# Altium footprint library myLib.PcbLib: 111 footprints (part 1 of 7)
Each footprint in its own frame and in the unit in brackets; x right, y up, seen from the top. Pads: shape width x height; smd on the part's side, far side on the other; paste and mask are expansions set on the pad; w line width, h text height; cw(c..) or ccw(c..) is an arc to the next point about the centre after c.
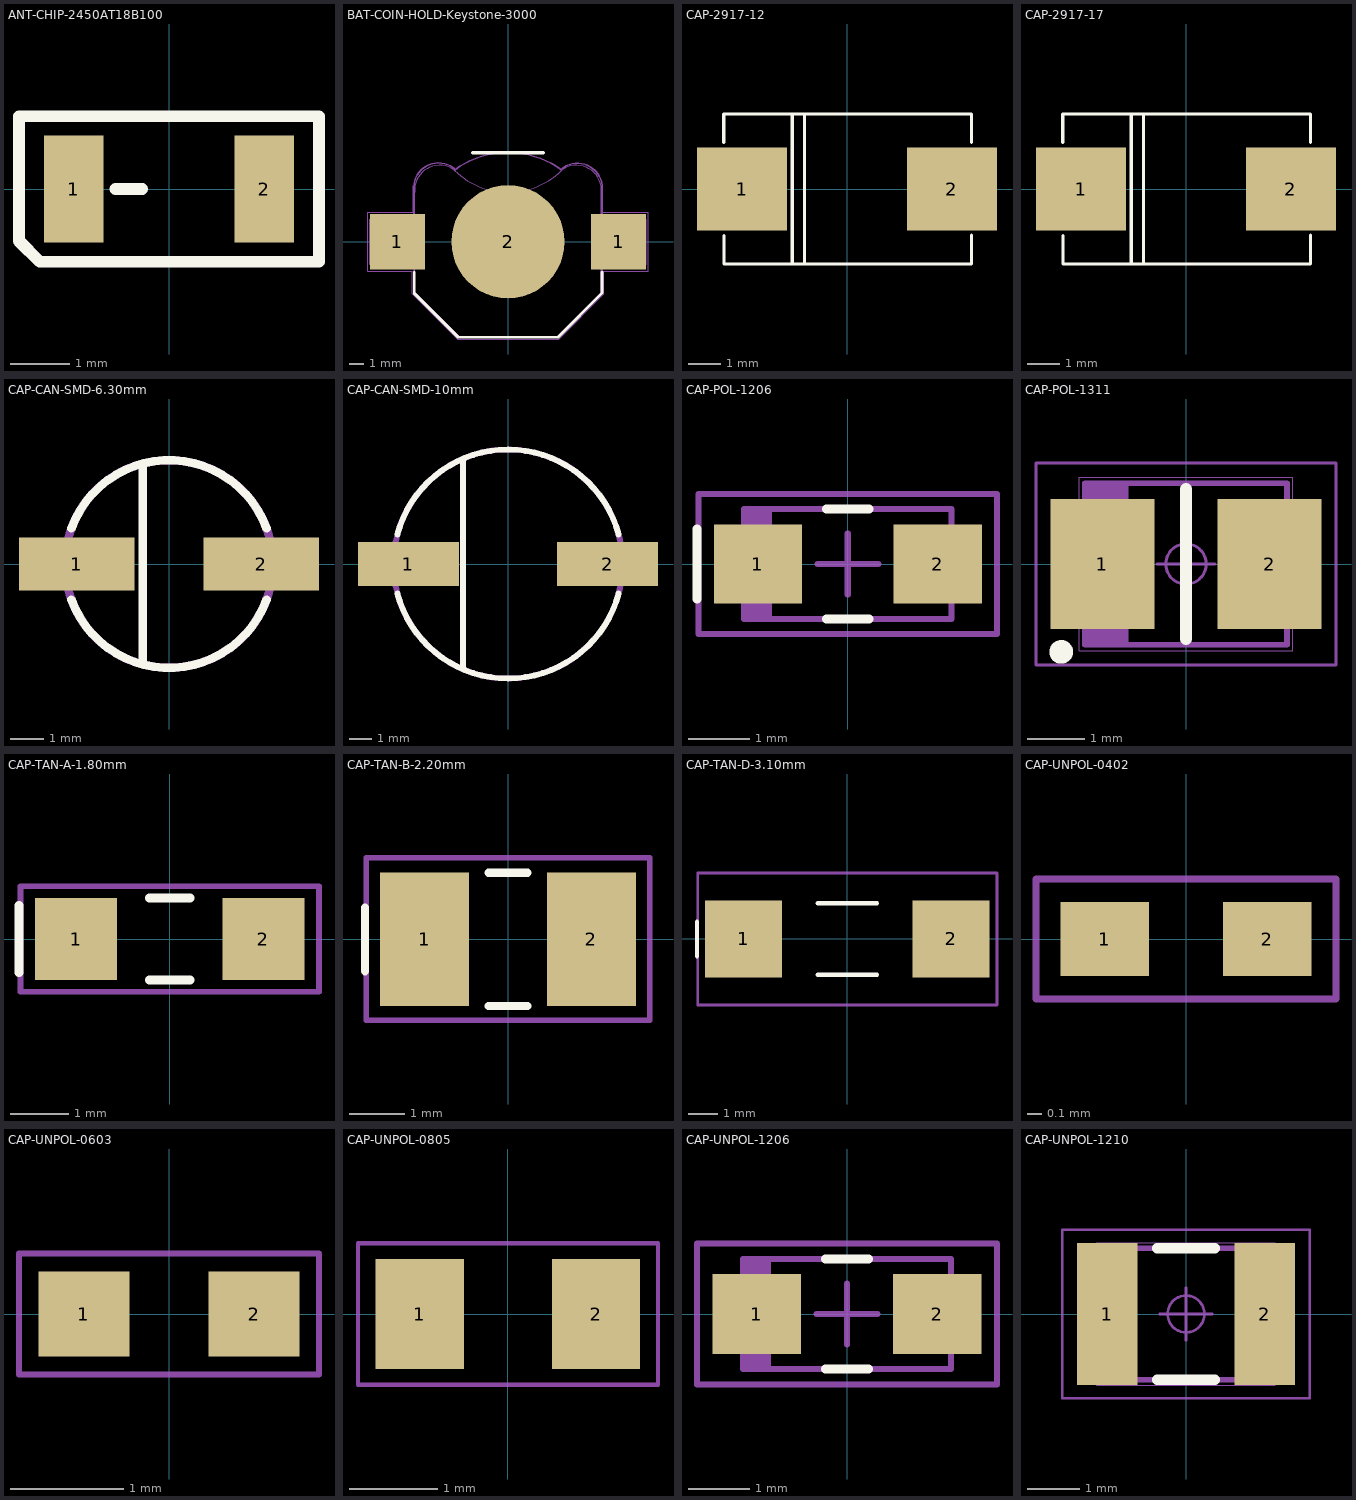
[diagram p0: the footprints below, top view; thin cyan lines are the x and y axes]

## ANT-CHIP-2450AT18B100 [mm] "Chip Antenna (Johnson Tech. 2450AT18B100)"
pads (2):
  rect 1x1.8 smd: 1(-1.6,0) 2(1.6,0)
Top Overlay:
  lines w0.2: -0.9,0 -0.45,0 ; -2.525,-0.875 -2.175,-1.225 2.525,-1.225 2.525,1.225 -2.525,1.225 -2.525,-0.875

## BAT-COIN-HOLD-Keystone-3000 [mm] "Coin Cell Battery Holder (Keystone 3000)"
height 3.2
pads (3):
  rect 3.9x3.9 smd: 1(-7.82,0) 1(7.82,0)
  round 8 smd mask+0: 2(0,0)
Top Overlay:
  lines w0.2: -6.631,-2.152 -6.631,-3.638 -3.517,-6.752 3.523,-6.752 6.651,-3.624 6.651,-2.152
  lines w0.254: -2.5,6.3 2.5,6.3
Drawing:
  lines w0.05: -6.697,3.669 cw(c-4.947,3.819) -3.753,5.107 ; -6.697,3.972 -6.697,2.091 -9.911,2.091 -9.911,-2.09 -6.757,-2.09 -6.757,-3.642 -6.757,-3.691 -3.57,-6.878 3.574,-6.878 6.776,-3.676 6.776,-2.091 8.247,-2.091 9.91,-2.091 9.91,2.091 6.689,2.091 6.689,4 ; -3.745,5.096 cw(c0,-0.1) 3.756,5.088 ; 3.765,5.102 cw(c4.939,3.795) 6.689,3.645
3D:
  circle w0.001: c8.185,0 r1.2
  circle w0.001: c-8.185,0 r1.2
  lines w0.001: -6.6,-1.6 -9.77,-1.6 -9.77,1.6 -6.6,1.6 ; -3.802,5.055 cw(c0,-0.1) 3.803,5.054 ; 6.6,-1.6 9.77,-1.6 9.77,1.6 6.6,1.6 ; -6.6,-3.6 -3.5,-6.7 3.5,-6.7 6.6,-3.6 6.6,-3.5 6.6,3.5 ccw(c4.85,3.65) 3.837,5.085 cw(c0.001,8.915) -3.83,5.08 ccw(c-4.85,3.65) -6.6,3.5 -6.6,-3.5 -6.6,-3.6
Mechanical:
  lines w0.1: -6.653,3.668 cw(c-4.903,3.818) -3.709,5.106 ; -6.653,3.928 -6.653,1.727 ; -6.635,-3.635 -3.517,-6.752 3.523,-6.752 6.589,-3.679 ; -6.631,-3.638 -6.631,-1.723 ; -3.745,5.096 cw(c0,-0.1) 3.756,5.088 ; 3.733,5.098 cw(c4.906,3.792) 6.654,3.965 6.654,1.73 9.575,1.73 9.575,-1.724 8.47,-1.724 6.651,-1.724 6.651,-3.623 ; -9.578,-1.723 -9.578,1.727 ; -9.578,-1.723 -6.631,-1.723 ; -9.578,-1.723 -6.631,-1.723 ; -9.578,-1.723 -9.578,1.727 ; -9.578,1.727 -6.653,1.727 ; -9.578,1.727 -6.653,1.727
3D body "User Library-BK-885-TR.step": height 3.19, standoff 0.02, extent -9.78,-6.36 9.78,6.34

## CAP-2917-12 [mm] "EIA-7343-31"
pads (2):
  rect 2.77x2.55 smd: 1(-3.22,0) 2(3.22,0)
Top Overlay:
  lines w0.1: -3.786,1.427 -3.786,2.301 3.817,2.301 3.821,2.301 3.821,1.427 ; -3.779,-1.425 -3.779,-2.3 3.821,-2.3 3.821,-1.422 ; -1.679,-2.3 -1.679,2.3 ; -1.302,-2.3 -1.302,2.3 -1.293,2.3
3D body "T495D107K016ATE100.step": height 3.31, standoff 0.21, extent -3.78,-2.3 3.82,2.3

## CAP-2917-17 [mm] "EIA-7343-43"
pads (2):
  rect 2.77x2.55 smd: 1(-3.22,0) 2(3.22,0)
Top Overlay:
  lines w0.1: -3.786,1.427 -3.786,2.301 3.817,2.301 3.821,2.301 3.821,1.427 ; -3.779,-1.425 -3.779,-2.3 3.821,-2.3 3.821,-1.422 ; -1.679,-2.3 -1.679,2.3 ; -1.302,-2.3 -1.302,2.3 -1.293,2.3
3D body "T495X477K010ATE100.step": height 4.51, standoff 0.21, extent -3.777,-2.297 3.823,2.303

## CAP-CAN-SMD-6.30mm [mm] "Size: 6.60mm x 6.60mm, Diameter: 6.3mm, Height: 5.80mm"
height 1.6
pads (2):
  rect 3.5x1.6 smd: 1(-2.8,0) 2(2.8,0)
Top Overlay:
  lines w0.254: -2.96,-1.077 ccw(c0,0) 2.96,-1.077 ; -2.96,1.077 cw(c0,0) 2.96,1.077 ; -0.798,-3.045 -0.798,3.041
Drawing:
  circle w0.254: c0,0 r3.15
3D body "EDK106M063A9GAA.step": height 5.75, standoff 0.1, extent -3.747,-3.408 3.853,3.392

## CAP-CAN-SMD-10mm [mm] "Size: 10.30mm x 10.30mm, Diameter: 10mm, Height: 10.5 mm"
height 1.6
pads (2):
  rect 4.4x1.9 smd: 1(-4.35,0) 2(4.35,0)
Top Overlay:
  lines w0.1: -2.238,4.438 -1.964,4.438
  lines w0.254: -4.83,-1.294 ccw(c0,0) 4.83,-1.294 ; -4.83,1.294 cw(c0,0) 4.83,1.294 ; -1.964,-4.581 -1.964,4.581
Drawing:
  circle w0.254: c0,0 r5
3D body "EDH476M100A9PAA (1).step": height 10.61, standoff 0.1, extent -6.117,-5.291 6.083,5.209

## CAP-POL-1206 [mm] "Molded Capacitor, 2-Leads, Body 3.2x1.6mm, IPC Medium Density"
height 1.6
pads (2):
  rect 1.45x1.3 smd: 1(-1.475,0) 2(1.475,0)
Top Overlay:
  lines w0.15: -2.475,-0.575 -2.475,0.575 ; -0.35,-0.9 0.35,-0.9 ; -0.35,0.9 0.35,0.9
Drawing:
  rectangle: -1.7,-0.9 -1.243,0.9
  lines w0.1: -1.7,-0.9 -1.7,0.9 1.7,0.9 1.7,-0.9 -1.7,-0.9
Mechanical:
  lines w0.1: -0.5,0 0.5,0 ; 0,-0.5 0,0.5 ; -2.45,-1.15 -2.45,1.15 2.45,1.15 2.45,-1.15 -2.45,-1.15
3D body: height 1.6, standoff 0, extent -1.651,-0.889 -0.635,0.889
3D body: height 1.6, standoff 0, extent -0.889,-0.9 1.7,0.9

## CAP-POL-1311 [mm] "3528mm X 210N"
height 1.9
pads (2):
  rect 1.8x2.25 smd: 1(-1.45,0) 2(1.45,0)
Top Overlay:
  circle w0.25: c-2.163,-1.524 r0.08
  lines w0.2: 0,-1.3 0,1.3
Drawing:
  circle w0.05: c0,0 r0.35
  lines w0.05: -0.5,0 0.5,0 ; 0,-0.5 0,0.5 ; -2.6,-1.75 -2.6,1.75 2.6,1.75 2.6,-1.75 -2.6,-1.75
3D:
  lines w0.001: -1.85,-1.5 -1.85,1.5 1.85,1.5 1.85,-1.5 -1.85,-1.5
Mechanical:
  lines w0.1: -1.65,-1.4 -1.65,1.4 ; -1.55,-1.4 -1.55,1.4 ; -1.45,-1.4 -1.45,1.4 ; -1.35,-1.4 -1.35,1.4 ; -1.25,-1.4 -1.25,1.4 ; -1.15,-1.4 -1.15,1.4 ; -1.05,-1.4 -1.05,1.4 ; -1.75,-1.4 -1.75,1.4 ; -1.75,-1.4 -1.75,1.4 ; -1.75,-1.4 1.75,-1.4 1.75,1.4 -1.75,1.4
3D body: height 1.9, standoff 0, extent -0.991,-1.5 1.85,1.5
3D body: height 1.9, standoff 0, extent -1.85,-1.5 -0.991,1.5

## CAP-TAN-A-1.80mm [mm] "Size: 3.20mm x 1.60mm, Height: 1.8mm"
height 1.6
pads (2):
  rect 1.4x1.4 smd: 1(-1.6,0) 2(1.6,0)
Top Overlay:
  lines w0.15: -2.575,-0.575 -2.575,0.575 ; -0.35,-0.7 0.35,-0.7 ; -0.35,0.7 0.35,0.7
Drawing:
  lines w0.1: -2.55,-0.9 -2.55,0.9 2.55,0.9 2.55,-0.9 -2.55,-0.9
3D body "T55_A-case.stp": height 1.9, standoff 0.1, extent -1.7,-0.9 1.7,0.9

## CAP-TAN-B-2.20mm [mm] "Size: 3.50mm x 2.80mm, Height: 2.10mm"
height 1.6
pads (2):
  rect 1.6x2.4 smd: 1(-1.5,0) 2(1.5,0)
Top Overlay:
  lines w0.15: -2.575,-0.575 -2.575,0.575 ; -0.35,-1.2 0.35,-1.2 ; -0.35,1.2 0.35,1.2
Drawing:
  lines w0.1: -2.55,-1.458 2.55,-1.458 2.55,1.472 -2.55,1.472 -2.55,-1.458
3D body "TCJB226M016R0150-TCJ_B.stp": height 1.96, standoff -0.07, extent -1.964,-1.458 1.736,1.472

## CAP-TAN-D-3.10mm [mm] "Size: 7.30mm x 4.30mm, Height: 3.10mm"
height 1.6
pads (2):
  rect 2.6x2.6 smd: 1(-3.5,0) 2(3.5,0)
Top Overlay:
  lines w0.15: -5.075,-0.575 -5.075,0.575 ; -1,-1.2 1,-1.2 ; -1,1.2 1,1.2
Drawing:
  lines w0.1: -5.05,-2.225 5.05,-2.225 5.05,2.225 -5.05,2.225 -5.05,-2.225
3D body "TPSD107M016R0100-TPS_D.stp": height 3.07, standoff 0.07, extent -3.704,-2.225 3.695,2.225

## CAP-UNPOL-0402 [mm] "Capacitor, Generic, 0402"
pads (2):
  rect 0.6x0.5 smd: 1(-0.55,0) 2(0.55,0)
Drawing:
  lines w0.05: -1.016,-0.406 1.016,-0.406 1.016,0.406 -1.016,0.406 -1.016,-0.406

## CAP-UNPOL-0603 [mm] "Capacitor, Generic, 0603"
pads (2):
  rect 0.8x0.75 smd: 1(-0.75,0) 2(0.75,0)
Drawing:
  lines w0.05: -1.321,-0.533 1.321,-0.533 1.321,0.533 -1.321,0.533 -1.321,-0.533

## CAP-UNPOL-0805 [mm] "Capacitor, Generic, 0805"
pads (2):
  rect 1x1.25 smd: 1(-1,0) 2(1,0)
Drawing:
  lines w0.05: 1.7,-0.8 -1.7,-0.8 -1.7,0.8 1.702,0.8 1.702,-0.8

## CAP-UNPOL-1206 [mm] "Molded Capacitor, 2-Leads, Body 3.2x1.6mm, IPC Medium Density"
height 1.6
pads (2):
  rect 1.45x1.3 smd: 1(-1.475,0) 2(1.475,0)
Top Overlay:
  lines w0.15: -0.35,-0.9 0.35,-0.9 ; -0.35,0.9 0.35,0.9
Drawing:
  rectangle: -1.7,-0.9 -1.243,0.9
  lines w0.1: -1.7,-0.9 1.7,-0.9 1.7,0.9 -1.7,0.9 -1.7,-0.9
Mechanical:
  lines w0.1: -0.5,0 0.5,0 ; 0,-0.5 0,0.5 ; -2.45,-1.15 2.45,-1.15 2.45,1.15 -2.45,1.15 -2.45,-1.15
3D body: height 1.6, standoff 0, extent -0.889,-0.9 1.7,0.9
3D body: height 1.6, standoff 0, extent -1.651,-0.889 -0.635,0.889

## CAP-UNPOL-1210 [mm] "Multilayer Ceramic Capacitor"
height 1.9
pads (2):
  rect 1.15x2.7 smd: 1(-1.5,0) 2(1.5,0)
Top Overlay:
  lines w0.2: -0.55,-1.25 0.55,-1.25 ; -0.55,1.25 0.55,1.25
Drawing:
  circle w0.05: c0,0 r0.35
  lines w0.05: -0.5,0 0.5,0 ; 0,-0.5 0,0.5 ; -2.35,-1.6 -2.35,1.6 2.35,1.6 2.35,-1.6 -2.35,-1.6
3D:
  lines w0.001: -1.7,-1.35 -1.7,1.35 1.7,1.35 1.7,-1.35 -1.7,-1.35
Mechanical:
  lines w0.1: -1.6,-1.25 -1.6,1.25 1.6,1.25 1.6,-1.25 -1.6,-1.25
3D body: height 1.9, standoff 0, extent -1.7,-1.35 1.7,1.35